# Altium footprint library SMA_END_SMD_BWRC.PcbLib: 1 footprints
Each footprint in its own frame and in the unit in brackets; x right, y up, seen from the top. Pads: shape width x height; smd on the part's side, far side on the other; paste and mask are expansions set on the pad; w line width, h text height; cw(c..) or ccw(c..) is an arc to the next point about the centre after c.
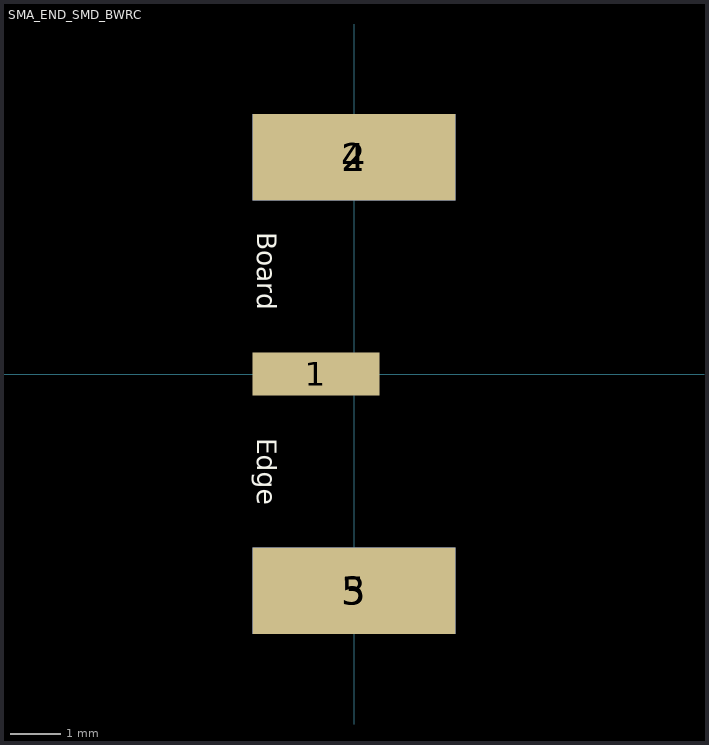
[diagram p0: the footprint, top view; thin cyan lines are the x and y axes]

## SMA_END_SMD_BWRC [mm]
pads (5):
  rect 2.5x0.85 smd: 1(-0.749,0)
  rect 4x1.7 smd: 2(0,4.27) 3(0,-4.27)
  rect 4x1.7 smd far side: 4(0,4.27) 5(0,-4.27)
Top Overlay:
  text "Edge" at -1.905,-1.27 h0.38
  text "Board" at -1.905,2.794 h0.38